# Altium integrated library nxp.IntLib: 3 symbols
Pins are listed as number, name and electrical type; pins without a type are passive.

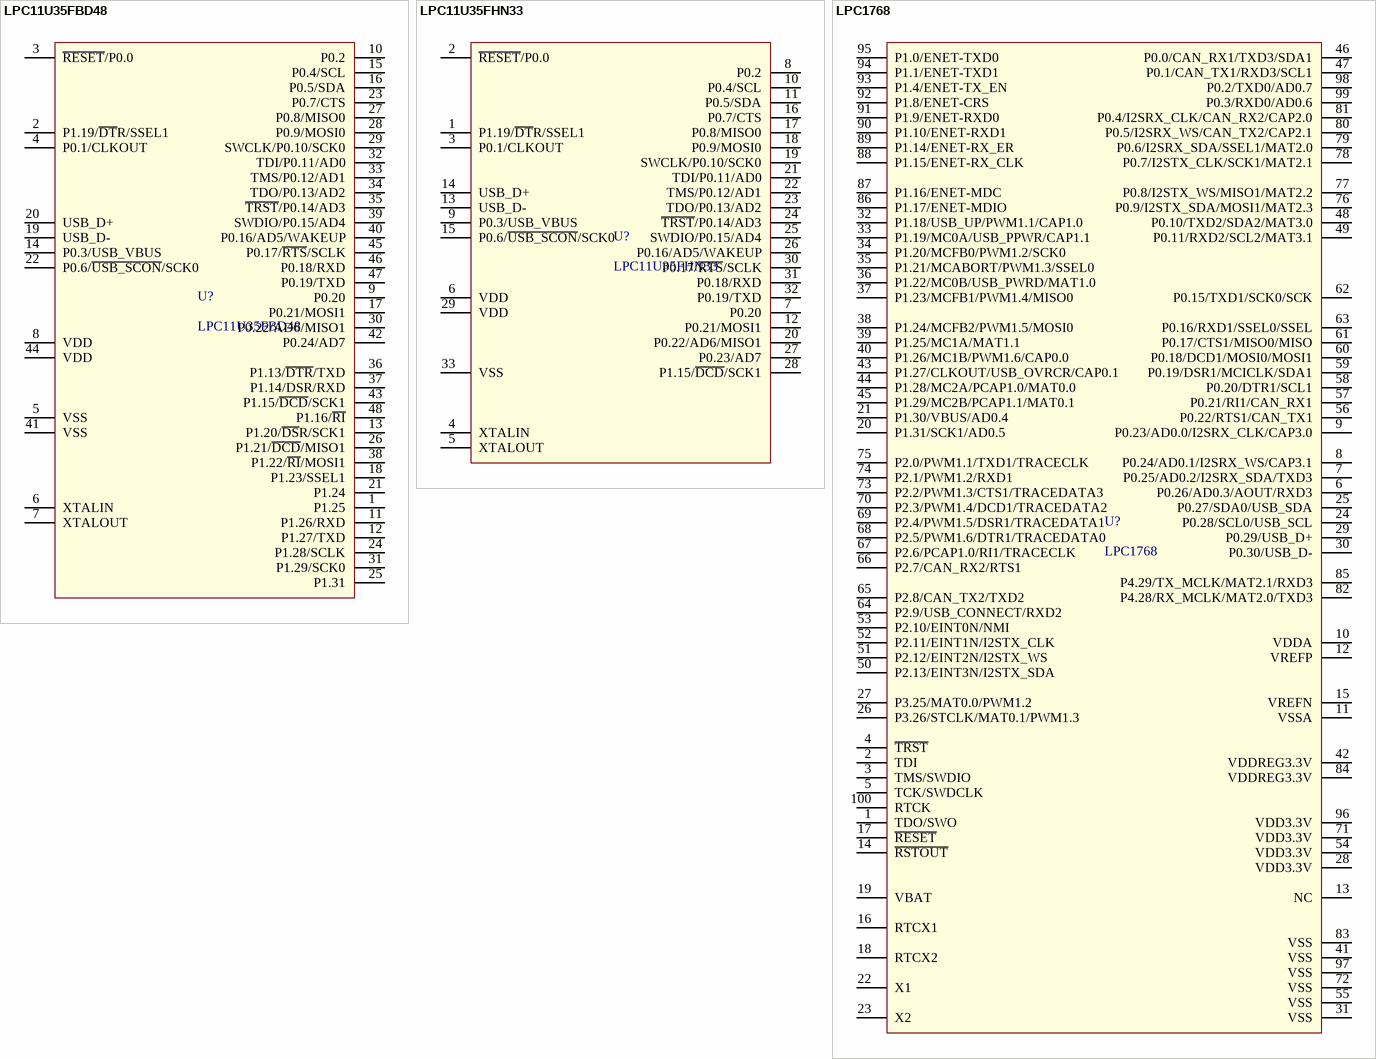
[diagram p0: symbols LPC11U35FBD48 to LPC1768]

## LPC11U35FBD48
designator U?
footprint PQFP48
pins: 1 P1.25, 2 P1.19/~{DT}R/SSEL1, 3 ~{RE}~{SET}/P0.0, 4 P0.1/CLKOUT, 5 VSS, 6 XTALIN, 7 XTALOUT, 8 VDD, 9 P0.20, 10 P0.2, 11 P1.26/RXD, 12 P1.27/TXD, 13 P1.20/~{DS}R/SCK1, 14 P0.3/USB_VBUS, 15 P0.4/SCL, 16 P0.5/SDA, 17 P0.21/MOSI1, 18 P1.23/SSEL1, 19 USB_D-, 20 USB_D+, 21 P1.24, 22 P0.6/~{USB_SCON}/SCK0, 23 P0.7/CTS, 24 P1.28/SCLK, 25 P1.31, 26 P1.21/~{DCD}/MISO1, 27 P0.8/MISO0, 28 P0.9/MOSI0, 29 SWCLK/P0.10/SCK0, 30 P0.22/AD6/MISO1, 31 P1.29/SCK0, 32 TDI/P0.11/AD0, 33 TMS/P0.12/AD1, 34 TDO/P0.13/AD2, 35 ~{TRST}/P0.14/AD3, 36 P1.13/~{DTR}/TXD, 37 P1.14/DSR/RXD, 38 P1.22/~{RI}/MOSI1, 39 SWDIO/P0.15/AD4, 40 P0.16/AD5/WAKEUP, 41 VSS, 42 P0.24/AD7, 43 P1.15/~{DCD}/SCK1, 44 VDD, 45 P0.17/~{RTS}/SCLK, 46 P0.18/RXD, 47 P0.19/TXD, 48 P1.16/~{RI}

## LPC11U35FHN33
designator U?
footprint HVQFN33
pins: 1 P1.19/~{DT}R/SSEL1, 2 ~{RE}~{SET}/P0.0, 3 P0.1/CLKOUT, 4 XTALIN, 5 XTALOUT, 6 VDD, 7 P0.20, 8 P0.2, 9 P0.3/USB_VBUS, 10 P0.4/SCL, 11 P0.5/SDA, 12 P0.21/MOSI1, 13 USB_D-, 14 USB_D+, 15 P0.6/~{USB_SCON}/SCK0, 16 P0.7/CTS, 17 P0.8/MISO0, 18 P0.9/MOSI0, 19 SWCLK/P0.10/SCK0, 20 P0.22/AD6/MISO1, 21 TDI/P0.11/AD0, 22 TMS/P0.12/AD1, 23 TDO/P0.13/AD2, 24 ~{TRST}/P0.14/AD3, 25 SWDIO/P0.15/AD4, 26 P0.16/AD5/WAKEUP, 27 P0.23/AD7, 28 P1.15/~{DCD}/SCK1, 29 VDD, 30 P0.17/~{RTS}/SCLK, 31 P0.18/RXD, 32 P0.19/TXD, 33 VSS

## LPC1768
designator U?
footprint LQFP100
pins: 1 TDO/SWO, 2 TDI, 3 TMS/SWDIO, 4 ~{TRST}, 5 TCK/SWDCLK, 6 P0.26/AD0.3/AOUT/RXD3, 7 P0.25/AD0.2/I2SRX_SDA/TXD3, 8 P0.24/AD0.1/I2SRX_WS/CAP3.1, 9 P0.23/AD0.0/I2SRX_CLK/CAP3.0, 10 VDDA, 11 VSSA, 12 VREFP, 13 NC, 14 ~{RSTOUT}, 15 VREFN, 16 RTCX1, 17 ~{RESET}, 18 RTCX2, 19 VBAT, 20 P1.31/SCK1/AD0.5, 21 P1.30/VBUS/AD0.4, 22 X1, 23 X2, 24 P0.28/SCL0/USB_SCL, 25 P0.27/SDA0/USB_SDA, 26 P3.26/STCLK/MAT0.1/PWM1.3, 27 P3.25/MAT0.0/PWM1.2, 28 VDD3.3V, 29 P0.29/USB_D+, 30 P0.30/USB_D-, 31 VSS, 32 P1.18/USB_UP/PWM1.1/CAP1.0, 33 P1.19/MC0A/USB_PPWR/CAP1.1, 34 P1.20/MCFB0/PWM1.2/SCK0, 35 P1.21/MCABORT/PWM1.3/SSEL0, 36 P1.22/MC0B/USB_PWRD/MAT1.0, 37 P1.23/MCFB1/PWM1.4/MISO0, 38 P1.24/MCFB2/PWM1.5/MOSI0, 39 P1.25/MC1A/MAT1.1, 40 P1.26/MC1B/PWM1.6/CAP0.0, 41 VSS, 42 VDDREG3.3V, 43 P1.27/CLKOUT/USB_OVRCR/CAP0.1, 44 P1.28/MC2A/PCAP1.0/MAT0.0, 45 P1.29/MC2B/PCAP1.1/MAT0.1, 46 P0.0/CAN_RX1/TXD3/SDA1, 47 P0.1/CAN_TX1/RXD3/SCL1, 48 P0.10/TXD2/SDA2/MAT3.0, 49 P0.11/RXD2/SCL2/MAT3.1, 50 P2.13/EINT3N/I2STX_SDA, 51 P2.12/EINT2N/I2STX_WS, 52 P2.11/EINT1N/I2STX_CLK, 53 P2.10/EINT0N/NMI, 54 VDD3.3V, 55 VSS, 56 P0.22/RTS1/CAN_TX1, 57 P0.21/RI1/CAN_RX1, 58 P0.20/DTR1/SCL1, 59 P0.19/DSR1/MCICLK/SDA1, 60 P0.18/DCD1/MOSI0/MOSI1, 61 P0.17/CTS1/MISO0/MISO, 62 P0.15/TXD1/SCK0/SCK, 63 P0.16/RXD1/SSEL0/SSEL, 64 P2.9/USB_CONNECT/RXD2, 65 P2.8/CAN_TX2/TXD2, 66 P2.7/CAN_RX2/RTS1, 67 P2.6/PCAP1.0/RI1/TRACECLK, 68 P2.5/PWM1.6/DTR1/TRACEDATA0, 69 P2.4/PWM1.5/DSR1/TRACEDATA1, 70 P2.3/PWM1.4/DCD1/TRACEDATA2, 71 VDD3.3V, 72 VSS, 73 P2.2/PWM1.3/CTS1/TRACEDATA3, 74 P2.1/PWM1.2/RXD1, 75 P2.0/PWM1.1/TXD1/TRACECLK, 76 P0.9/I2STX_SDA/MOSI1/MAT2.3, 77 P0.8/I2STX_WS/MISO1/MAT2.2, 78 P0.7/I2STX_CLK/SCK1/MAT2.1, 79 P0.6/I2SRX_SDA/SSEL1/MAT2.0, 80 P0.5/I2SRX_WS/CAN_TX2/CAP2.1, 81 P0.4/I2SRX_CLK/CAN_RX2/CAP2.0, 82 P4.28/RX_MCLK/MAT2.0/TXD3, 83 VSS, 84 VDDREG3.3V, 85 P4.29/TX_MCLK/MAT2.1/RXD3, 86 P1.17/ENET-MDIO, 87 P1.16/ENET-MDC, 88 P1.15/ENET-RX_CLK, 89 P1.14/ENET-RX_ER, 90 P1.10/ENET-RXD1, 91 P1.9/ENET-RXD0, 92 P1.8/ENET-CRS, 93 P1.4/ENET-TX_EN, 94 P1.1/ENET-TXD1, 95 P1.0/ENET-TXD0, 96 VDD3.3V, 97 VSS, 98 P0.2/TXD0/AD0.7, 99 P0.3/RXD0/AD0.6, 100 RTCK